# Altium schematic symbol library Relay.SchLib: 4 symbols
Pins are listed as number, name and electrical type; pins without a type are passive.

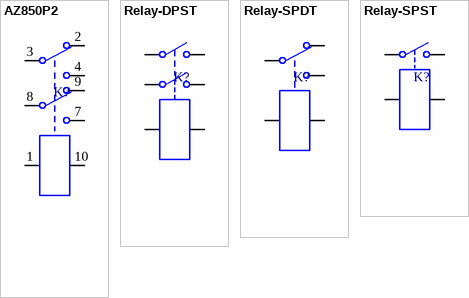
[diagram p0: symbols AZ850P2 to Relay-SPST]

## AZ850P2
designator K?
Dual-Pole Dual-Throw Relay; Published: 24-Mar-1999; LatestRevisionDate: 17-Jul-2002; LatestRevisionNote: Re-released for DXP Platform.; PackageReference: DIP-P8; Publisher: Altium Limited
footprint DIP-10/RELAY (DIP; 10 Leads; Row Spacing 7.62 mm; Pitch 2.54 mm)
pins: 1, 2, 3, 4, 7, 8, 9, 10

## Relay-DPST
designator K?
Dual-Pole Single-Throw Relay; Published: 24-Mar-1999; LatestRevisionDate: 17-Jul-2002; LatestRevisionNote: Re-released for DXP Platform.; PackageReference: MODULE6; Publisher: Altium Limited
footprint DIP-P6/D33 (DIP; 6 Round Pins; Row Space 20.32 mm; Pitch 2.54 mm)
simulation model DPSTRELAY (Spice Subcircuit)
pins: 1, 2, 3, 4, 5, 6

## Relay-SPDT
designator K?
Single-Pole Dual-Throw Relay; Published: 24-Mar-1999; LatestRevisionDate: 17-Jul-2002; LatestRevisionNote: Re-released for DXP Platform.; PackageReference: MODULE5B; Publisher: Altium Limited
footprint DIP-P5/X1.65 (DIP; 5 Round Pins; Row Space 15.24 mm; Pitch 2.54 mm)
simulation model SPDTRELAY (Spice Subcircuit)
pins: 1, 2, 3, 4, 5

## Relay-SPST
designator K?
Single-Pole Single-Throw Relay; Published: 24-Mar-1999; LatestRevisionDate: 17-Jul-2002; LatestRevisionNote: Re-released for DXP Platform.; PackageReference: MODULE4; Publisher: Altium Limited
footprint DIP-P4 (DIP; 4 Round Pins; Row Space 27.94 mm; Pitch 15.24 mm)
simulation model SPSTRELAY (Spice Subcircuit)
pins: 1, 2, 3, 4